# Altium schematic symbol library Linear Power Management DCDC Converters.SchLib: 1 symbol
Pins are listed as number, name and electrical type; pins without a type are passive.

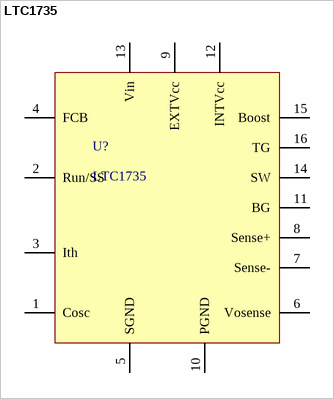
[diagram p0: symbol LTC1735]

## LTC1735
designator U?
High Efficiency Synchronous Step-Down Switching Regulator
footprint 16-SOIC (S Package)
pins: 1 Cosc, 2 Run/SS, 3 Ith, 4 FCB, 5 SGND, 6 Vosense, 7 Sense-, 8 Sense+, 9 EXTVcc, 10 PGND, 11 BG, 12 INTVcc, 13 Vin, 14 SW, 15 Boost, 16 TG